# Altium footprint library TO-220-deitado.PcbLib: 1 footprints
Each footprint in its own frame and in the unit in brackets; x right, y up, seen from the top. Pads: shape width x height; smd on the part's side, far side on the other; paste and mask are expansions set on the pad; w line width, h text height; cw(c..) or ccw(c..) is an arc to the next point about the centre after c.
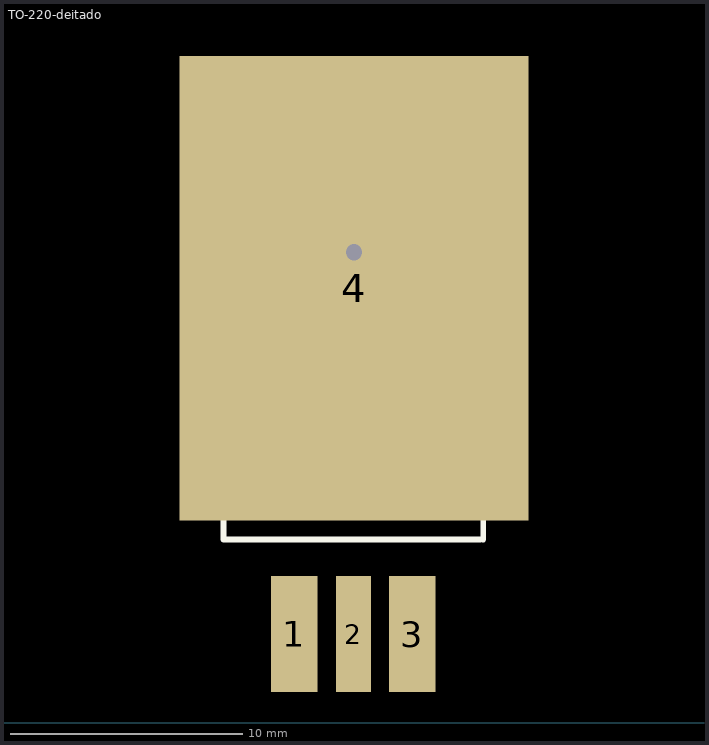
[diagram p0: the footprint, top view; thin cyan lines are the x and y axes]

## TO-220-deitado [mm]
height 4.07
pads (4):
  rect 2x5 smd: 1(18.034,3.81) 3(23.114,3.81)
  rect 1.5x5 smd: 2(20.574,3.81)
  rect 15x20 smd: 4(20.6,18.7)
via 20.599,20.245 diameter 4 hole 0.7
Top Overlay:
  lines w0.254: 14.986,16.383 26.162,16.383 ; 14.986,23.145 14.986,17.145 ; 14.986,23.241 26.162,23.241 ; 26.035,7.874 14.986,7.874 14.986,17.145 ; 26.035,17.145 26.162,17.145 ; 26.162,7.874 26.162,17.145 ; 26.162,23.145 26.162,17.145 ; 14.986,17.145 26.162,17.145
3D body: height 4.71, standoff 0.02, extent 14.993,-6.025 26.206,23.305